# EAGLE library part ATMEGA64 (library Atmel)
Atmel ATmega64 Microcontroller
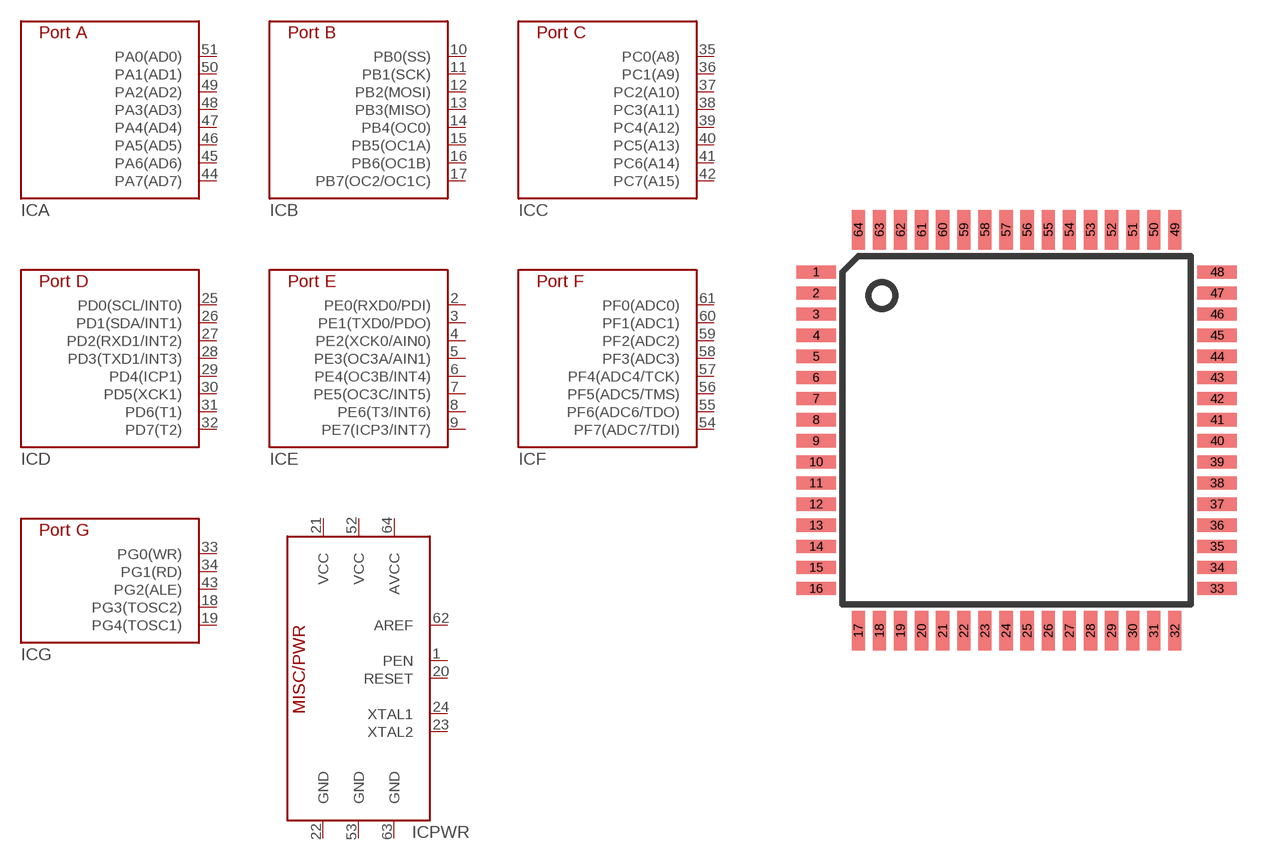
[diagram p3: symbol with the pads of TQ64-64A; footprint TQ64-64A]

Designator prefix IC; gates A=ATMEGA64-A B=ATMEGA64-B C=ATMEGA64-C D=ATMEGA64-D E=ATMEGA64-E F=ATMEGA64-F G=ATMEGA64-G PWR=ATMEGA64-MISC

## ATMEGA64-A  [TQ64-64A]
1  PWR:PEN
2  E:PE0(RXD0/PDI)
3  E:PE1(TXD0/PDO)
4  E:PE2(XCK0/AIN0)
5  E:PE3(OC3A/AIN1)
6  E:PE4(OC3B/INT4)
7  E:PE5(OC3C/INT5)
8  E:PE6(T3/INT6)
9  E:PE7(ICP3/INT7)
10  B:PB0(SS)
11  B:PB1(SCK)
12  B:PB2(MOSI)
13  B:PB3(MISO)
14  B:PB4(OC0)
15  B:PB5(OC1A)
16  B:PB6(OC1B)
17  B:PB7(OC2/OC1C)
18  G:PG3(TOSC2)
19  G:PG4(TOSC1)
20  PWR:RESET
21  PWR:VCC  pwr
22  PWR:GND  pwr
23  PWR:XTAL2
24  PWR:XTAL1
25  D:PD0(SCL/INT0)
26  D:PD1(SDA/INT1)
27  D:PD2(RXD1/INT2)
28  D:PD3(TXD1/INT3)
29  D:PD4(ICP1)
30  D:PD5(XCK1)
31  D:PD6(T1)
32  D:PD7(T2)
33  G:PG0(WR)
34  G:PG1(RD)
35  C:PC0(A8)
36  C:PC1(A9)
37  C:PC2(A10)
38  C:PC3(A11)
39  C:PC4(A12)
40  C:PC5(A13)
41  C:PC6(A14)
42  C:PC7(A15)
43  G:PG2(ALE)
44  A:PA7(AD7)
45  A:PA6(AD6)
46  A:PA5(AD5)
47  A:PA4(AD4)
48  A:PA3(AD3)
49  A:PA2(AD2)
50  A:PA1(AD1)
51  A:PA0(AD0)
52  PWR:VCC  pwr
53  PWR:GND  pwr
54  F:PF7(ADC7/TDI)
55  F:PF6(ADC6/TDO)
56  F:PF5(ADC5/TMS)
57  F:PF4(ADC4/TCK)
58  F:PF3(ADC3)
59  F:PF2(ADC2)
60  F:PF1(ADC1)
61  F:PF0(ADC0)
62  PWR:AREF
63  PWR:GND  pwr
64  PWR:AVCC  pwr

## Footprint TQ64-64A (pad centres in mm)
64A, 64-Lead, 14x14mm Body, 1.0mm Body Thickness, 0.8mm Lead Pitch, TQFP
smd 1.5 x 0.5: 1 -7.6,6; 2 -7.6,5.2; 3 -7.6,4.4; 4 -7.6,3.6; 5 -7.6,2.8; 6 -7.6,2; 7 -7.6,1.2; 8 -7.6,0.4; 9 -7.6,-0.4; 10 -7.6,-1.2; 11 -7.6,-2; 12 -7.6,-2.8; 13 -7.6,-3.6; 14 -7.6,-4.4; 15 -7.6,-5.2; 16 -7.6,-6; 33 7.6,-6; 34 7.6,-5.2; 35 7.6,-4.4; 36 7.6,-3.6; 37 7.6,-2.8; 38 7.6,-2; 39 7.6,-1.2; 40 7.6,-0.4; 41 7.6,0.4; 42 7.6,1.2; 43 7.6,2; 44 7.6,2.8; 45 7.6,3.6; 46 7.6,4.4; 47 7.6,5.2; 48 7.6,6
smd 0.5 x 1.5: 17 -6,-7.6; 18 -5.2,-7.6; 19 -4.4,-7.6; 20 -3.6,-7.6; 21 -2.8,-7.6; 22 -2,-7.6; 23 -1.2,-7.6; 24 -0.4,-7.6; 25 0.4,-7.6; 26 1.2,-7.6; 27 2,-7.6; 28 2.8,-7.6; 29 3.6,-7.6; 30 4.4,-7.6; 31 5.2,-7.6; 32 6,-7.6; 49 6,7.6; 50 5.2,7.6; 51 4.4,7.6; 52 3.6,7.6; 53 2.8,7.6; 54 2,7.6; 55 1.2,7.6; 56 0.4,7.6; 57 -0.4,7.6; 58 -1.2,7.6; 59 -2,7.6; 60 -2.8,7.6; 61 -3.6,7.6; 62 -4.4,7.6; 63 -5.2,7.6; 64 -6,7.6